# Altium integrated library Linear Technology Power Management uModule Regulators.IntLib: 166 symbols (part 29 of 67)
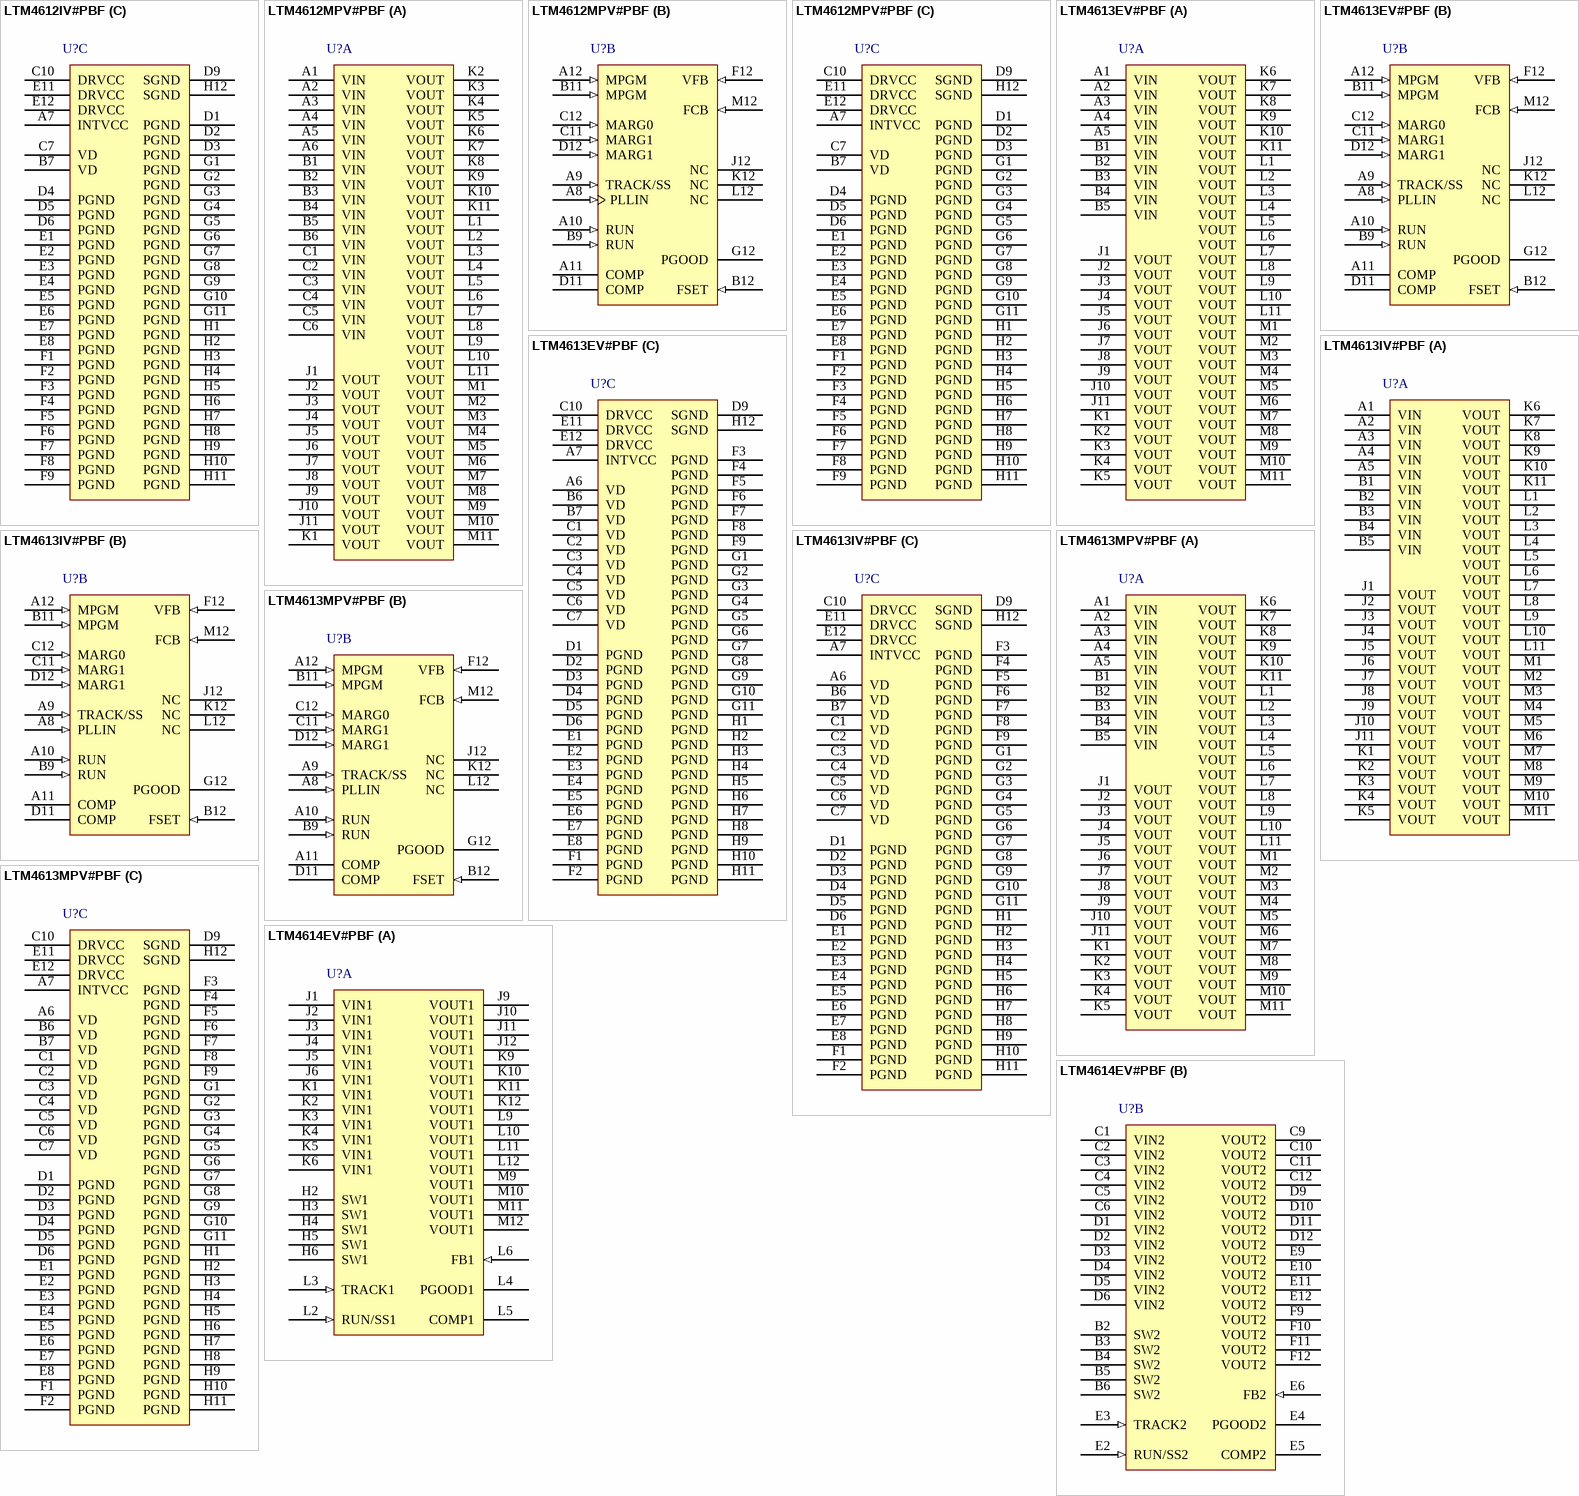
[diagram p55: symbols LTM4612IV#PBF to LTM4614EV#PBF]

## LTM4613IV#PBF
designator U?
36 VIN, 15 VOUT, 8 A, DC/DC uModule Regulator, 133-pin LGA, -40 to 125 degC, Pb-Free, Tray; Manufacturer: Linear Technology; PartNumber: LTM4613IV#PBF; Extended Temp: E, I, MP; Frequency Adjust Range: 200kHz - 700kHz; Frequency(kHz): 600; Ishutdown(uA): 50; Isupply(mA): 78; Number of Outputs: 1; Output Current(A): 8; Switch Current(A): 12; Synchronous: yes; Topology: Buck; Vin Max(V): 36; Vin Min(V): 5; Vout Max(V): 15; Vout Min(V): 3.3; PackageVersion: Rev. A, 02/2013; PackageReference: LGA-133; PackageDescription: 133-Pin LGA, Body 15 x 15 mm, Pitch 1.27 mm; Supplier 1: Digi-Key; Supplier Part Number 1: LTM4613IV#PBF-ND; Supplier 2: Farnell; Supplier Part Number 2: 2115884; Supplier 3: Newark; Supplier Part Number 3: 45T2342; Frequency Sync Range: 200kHz - 700kHz; Packing: Tray; RoHS: TRUE; Tracking: yes; Mounting Technology: Surface Mount; Code_JEDEC: MO-222; ComponentLink1Description: Manufacturer URL; ComponentLink1URL: http://www.linear.com/; ComponentLink2Description: Datasheet; ComponentLink2URL: http://cds.linear.com/docs/en/datasheet/4613f.pdf; ComponentLink3Description: Package Specification; ComponentLink3URL: http://cds.linear.com/docs/en/packaging/05081884_A_lga133.pdf
footprint LT-LGA-133-05-08-1884_V (LGA, 133-Leads, Body 15x15mm, Pitch 1.27mm)
part A pins: A1 VIN (power) "Power Input Pins. Apply input voltage between these pins and PGND pins. Recommend placing input decoupling capacitance directly between VIN pins and PGND pins.", A2 VIN (power) "Power Input Pins. Apply input voltage between these pins and PGND pins. Recommend placing input decoupling capacitance directly between VIN pins and PGND pins.", A3 VIN (power) "Power Input Pins. Apply input voltage between these pins and PGND pins. Recommend placing input decoupling capacitance directly between VIN pins and PGND pins.", A4 VIN (power) "Power Input Pins. Apply input voltage between these pins and PGND pins. Recommend placing input decoupling capacitance directly between VIN pins and PGND pins.", A5 VIN (power) "Power Input Pins. Apply input voltage between these pins and PGND pins. Recommend placing input decoupling capacitance directly between VIN pins and PGND pins.", B1 VIN (power) "Power Input Pins. Apply input voltage between these pins and PGND pins. Recommend placing input decoupling capacitance directly between VIN pins and PGND pins.", B2 VIN (power) "Power Input Pins. Apply input voltage between these pins and PGND pins. Recommend placing input decoupling capacitance directly between VIN pins and PGND pins.", B3 VIN (power) "Power Input Pins. Apply input voltage between these pins and PGND pins. Recommend placing input decoupling capacitance directly between VIN pins and PGND pins.", B4 VIN (power) "Power Input Pins. Apply input voltage between these pins and PGND pins. Recommend placing input decoupling capacitance directly between VIN pins and PGND pins.", B5 VIN (power) "Power Input Pins. Apply input voltage between these pins and PGND pins. Recommend placing input decoupling capacitance directly between VIN pins and PGND pins.", J1 VOUT (power) "Power Output Pins. Apply output load between these pins and PGND pins. Recommend placing output decoupling capacitance directly between these pins and PGND pins (see the LTM4613 Pin Configuration below).", J2 VOUT (power) "Power Output Pins. Apply output load between these pins and PGND pins. Recommend placing output decoupling capacitance directly between these pins and PGND pins (see the LTM4613 Pin Configuration below).", J3 VOUT (power) "Power Output Pins. Apply output load between these pins and PGND pins. Recommend placing output decoupling capacitance directly between these pins and PGND pins (see the LTM4613 Pin Configuration below).", J4 VOUT (power) "Power Output Pins. Apply output load between these pins and PGND pins. Recommend placing output decoupling capacitance directly between these pins and PGND pins (see the LTM4613 Pin Configuration below).", J5 VOUT (power) "Power Output Pins. Apply output load between these pins and PGND pins. Recommend placing output decoupling capacitance directly between these pins and PGND pins (see the LTM4613 Pin Configuration below).", J6 VOUT (power) "Power Output Pins. Apply output load between these pins and PGND pins. Recommend placing output decoupling capacitance directly between these pins and PGND pins (see the LTM4613 Pin Configuration below).", J7 VOUT (power) "Power Output Pins. Apply output load between these pins and PGND pins. Recommend placing output decoupling capacitance directly between these pins and PGND pins (see the LTM4613 Pin Configuration below).", J8 VOUT (power) "Power Output Pins. Apply output load between these pins and PGND pins. Recommend placing output decoupling capacitance directly between these pins and PGND pins (see the LTM4613 Pin Configuration below).", J9 VOUT (power) "Power Output Pins. Apply output load between these pins and PGND pins. Recommend placing output decoupling capacitance directly between these pins and PGND pins (see the LTM4613 Pin Configuration below).", J10 VOUT (power) "Power Output Pins. Apply output load between these pins and PGND pins. Recommend placing output decoupling capacitance directly between these pins and PGND pins (see the LTM4613 Pin Configuration below).", J11 VOUT (power) "Power Output Pins. Apply output load between these pins and PGND pins. Recommend placing output decoupling capacitance directly between these pins and PGND pins (see the LTM4613 Pin Configuration below).", K1 VOUT (power) "Power Output Pins. Apply output load between these pins and PGND pins. Recommend placing output decoupling capacitance directly between these pins and PGND pins (see the LTM4613 Pin Configuration below).", K2 VOUT (power) "Power Output Pins. Apply output load between these pins and PGND pins. Recommend placing output decoupling capacitance directly between these pins and PGND pins (see the LTM4613 Pin Configuration below).", K3 VOUT (power) "Power Output Pins. Apply output load between these pins and PGND pins. Recommend placing output decoupling capacitance directly between these pins and PGND pins (see the LTM4613 Pin Configuration below).", K4 VOUT (power) "Power Output Pins. Apply output load between these pins and PGND pins. Recommend placing output decoupling capacitance directly between these pins and PGND pins (see the LTM4613 Pin Configuration below).", K5 VOUT (power) "Power Output Pins. Apply output load between these pins and PGND pins. Recommend placing output decoupling capacitance directly between these pins and PGND pins (see the LTM4613 Pin Configuration below).", K6 VOUT (power) "Power Output Pins. Apply output load between these pins and PGND pins. Recommend placing output decoupling capacitance directly between these pins and PGND pins (see the LTM4613 Pin Configuration below).", K7 VOUT (power) "Power Output Pins. Apply output load between these pins and PGND pins. Recommend placing output decoupling capacitance directly between these pins and PGND pins (see the LTM4613 Pin Configuration below).", K8 VOUT (power) "Power Output Pins. Apply output load between these pins and PGND pins. Recommend placing output decoupling capacitance directly between these pins and PGND pins (see the LTM4613 Pin Configuration below).", K9 VOUT (power) "Power Output Pins. Apply output load between these pins and PGND pins. Recommend placing output decoupling capacitance directly between these pins and PGND pins (see the LTM4613 Pin Configuration below).", K10 VOUT (power) "Power Output Pins. Apply output load between these pins and PGND pins. Recommend placing output decoupling capacitance directly between these pins and PGND pins (see the LTM4613 Pin Configuration below).", K11 VOUT (power) "Power Output Pins. Apply output load between these pins and PGND pins. Recommend placing output decoupling capacitance directly between these pins and PGND pins (see the LTM4613 Pin Configuration below).", L1 VOUT (power) "Power Output Pins. Apply output load between these pins and PGND pins. Recommend placing output decoupling capacitance directly between these pins and PGND pins (see the LTM4613 Pin Configuration below).", L2 VOUT (power) "Power Output Pins. Apply output load between these pins and PGND pins. Recommend placing output decoupling capacitance directly between these pins and PGND pins (see the LTM4613 Pin Configuration below).", L3 VOUT (power) "Power Output Pins. Apply output load between these pins and PGND pins. Recommend placing output decoupling capacitance directly between these pins and PGND pins (see the LTM4613 Pin Configuration below).", L4 VOUT (power) "Power Output Pins. Apply output load between these pins and PGND pins. Recommend placing output decoupling capacitance directly between these pins and PGND pins (see the LTM4613 Pin Configuration below).", L5 VOUT (power) "Power Output Pins. Apply output load between these pins and PGND pins. Recommend placing output decoupling capacitance directly between these pins and PGND pins (see the LTM4613 Pin Configuration below).", L6 VOUT (power) "Power Output Pins. Apply output load between these pins and PGND pins. Recommend placing output decoupling capacitance directly between these pins and PGND pins (see the LTM4613 Pin Configuration below).", L7 VOUT (power) "Power Output Pins. Apply output load between these pins and PGND pins. Recommend placing output decoupling capacitance directly between these pins and PGND pins (see the LTM4613 Pin Configuration below).", L8 VOUT (power) "Power Output Pins. Apply output load between these pins and PGND pins. Recommend placing output decoupling capacitance directly between these pins and PGND pins (see the LTM4613 Pin Configuration below).", L9 VOUT (power) "Power Output Pins. Apply output load between these pins and PGND pins. Recommend placing output decoupling capacitance directly between these pins and PGND pins (see the LTM4613 Pin Configuration below).", L10 VOUT (power) "Power Output Pins. Apply output load between these pins and PGND pins. Recommend placing output decoupling capacitance directly between these pins and PGND pins (see the LTM4613 Pin Configuration below).", L11 VOUT (power) "Power Output Pins. Apply output load between these pins and PGND pins. Recommend placing output decoupling capacitance directly between these pins and PGND pins (see the LTM4613 Pin Configuration below).", M1 VOUT (power) "Power Output Pins. Apply output load between these pins and PGND pins. Recommend placing output decoupling capacitance directly between these pins and PGND pins (see the LTM4613 Pin Configuration below).", M2 VOUT (power) "Power Output Pins. Apply output load between these pins and PGND pins. Recommend placing output decoupling capacitance directly between these pins and PGND pins (see the LTM4613 Pin Configuration below).", M3 VOUT (power) "Power Output Pins. Apply output load between these pins and PGND pins. Recommend placing output decoupling capacitance directly between these pins and PGND pins (see the LTM4613 Pin Configuration below).", M4 VOUT (power) "Power Output Pins. Apply output load between these pins and PGND pins. Recommend placing output decoupling capacitance directly between these pins and PGND pins (see the LTM4613 Pin Configuration below).", M5 VOUT (power) "Power Output Pins. Apply output load between these pins and PGND pins. Recommend placing output decoupling capacitance directly between these pins and PGND pins (see the LTM4613 Pin Configuration below).", M6 VOUT (power) "Power Output Pins. Apply output load between these pins and PGND pins. Recommend placing output decoupling capacitance directly between these pins and PGND pins (see the LTM4613 Pin Configuration below).", M7 VOUT (power) "Power Output Pins. Apply output load between these pins and PGND pins. Recommend placing output decoupling capacitance directly between these pins and PGND pins (see the LTM4613 Pin Configuration below).", M8 VOUT (power) "Power Output Pins. Apply output load between these pins and PGND pins. Recommend placing output decoupling capacitance directly between these pins and PGND pins (see the LTM4613 Pin Configuration below).", M9 VOUT (power) "Power Output Pins. Apply output load between these pins and PGND pins. Recommend placing output decoupling capacitance directly between these pins and PGND pins (see the LTM4613 Pin Configuration below).", M10 VOUT (power) "Power Output Pins. Apply output load between these pins and PGND pins. Recommend placing output decoupling capacitance directly between these pins and PGND pins (see the LTM4613 Pin Configuration below).", M11 VOUT (power) "Power Output Pins. Apply output load between these pins and PGND pins. Recommend placing output decoupling capacitance directly between these pins and PGND pins (see the LTM4613 Pin Configuration below)."
part B pins: A8 PLLIN (in) "External Clock Synchronization Input to the Phase Detector. This pin is internally terminated to SGND with a 50k resistor. Apply a clock above 2V and below INTVCC subject to minimum on-time and minimum off-time requirements. (See Datasheet)", A9 TRACK/SS (in) "Output Voltage Tracking and Soft-Start Pin. When the module is configured as a master output, then a soft-start capacitor is placed on this pin to ground to control the master ramp rate. A soft start capacitor can be used (See Datasheet)", A10 RUN (in) "Run Control Pins. A voltage above 1.9V will turn on the module, and below 1V will turn off the module. A programmable UVLO function can be accomplished with a resistor from VIN to this pin that has a 5.1V Zener to ground. (See Datasheet)", A11 COMP "Current Control Threshold and Error Amplifier Compensation Point. The current comparator threshold increases with this control voltage. The voltage ranges from 0V to 2.4V with 0.7V corresponding to zero sense voltage (zero (See Datasheet)", A12 MPGM (in) "Programmable Margining Input. A resistor from these pins to ground sets a current that is equal to 1.18V/R. This current multiplied by 10k will equal a value in millivolts that is a percentage of the 0.6V reference voltage. (See Datasheet)", B9 RUN (in) "Run Control Pins. A voltage above 1.9V will turn on the module, and below 1V will turn off the module. A programmable UVLO function can be accomplished with a resistor from VIN to this pin that has a 5.1V Zener to ground. (See Datasheet)", B11 MPGM (in) "Programmable Margining Input. A resistor from these pins to ground sets a current that is equal to 1.18V/R. This current multiplied by 10k will equal a value in millivolts that is a percentage of the 0.6V reference voltage. (See Datasheet)", B12 FSET (in) "Frequency Set Internally to 600kHz at 12V Output. An external resistor can be placed from this pin to ground to increase frequency or from this pin to VIN to reduce frequency. See the Applications Information section for (See Datasheet)", C11 MARG1 (in) "MSB Logic Input for the Margining Function. Together with the MARG0 pin, the MARG1 pin will determine if a margin high, margin low, or no margin state is applied. The pins have an internal pull down resistor of 50k. See the (See Datasheet)", C12 MARG0 (in) "LSB Logic Input for the Margining Function. Together with the MARG1 pin, the MARG0 pin will determine if a margin high, margin low, or no margin state is applied. The pin has an internal pull down resistor of 50k. See the (See Datasheet)", D11 COMP "Current Control Threshold and Error Amplifier Compensation Point. The current comparator threshold increases with this control voltage. The voltage ranges from 0V to 2.4V with 0.7V corresponding to zero sense voltage (zero (See Datasheet)", D12 MARG1 (in) "MSB Logic Input for the Margining Function. Together with the MARG0 pin, the MARG1 pin will determine if a margin high, margin low, or no margin state is applied. The pins have an internal pull down resistor of 50k. See the (See Datasheet)", F12 VFB (in) "The Negative Input of the Error Amplifier. Internally, this pin is connected to VOUT with a 100k 0.5% precision resistor. Different output voltages can be programmed with an additional resistor between the VFB and SGND pins. (See Datasheet)", G12 PGOOD (oc) "Output Voltage Power Good Indicator. Open-drain logic output that is pulled to ground when the output voltage is not within +/-10% of the regulation point, after a 25us power bad mask timer expires.", J12 NC "No Connect Pins. Leave floating. Used for mounting to PCB.", K12 NC "No Connect Pins. Leave floating. Used for mounting to PCB.", L12 NC "No Connect Pins. Leave floating. Used for mounting to PCB.", M12 FCB (in) "Forced Continuous Input. Connect this pin to SGND to force continuous synchronization operation at light load or to INTVCC to enable discontinuous mode operation at light load."
part C pins: A6 VD (power) "Top FET Drain Pins. Add more high frequency ceramic decoupling capacitors between VD and PGND to handle the input RMS current and reduce the input ripple further.", A7 INTVCC (power) "This pin is for additional decoupling of the 5V internal regulator.", B6 VD (power) "Top FET Drain Pins. Add more high frequency ceramic decoupling capacitors between VD and PGND to handle the input RMS current and reduce the input ripple further.", B7 VD (power) "Top FET Drain Pins. Add more high frequency ceramic decoupling capacitors between VD and PGND to handle the input RMS current and reduce the input ripple further.", C1 VD (power) "Top FET Drain Pins. Add more high frequency ceramic decoupling capacitors between VD and PGND to handle the input RMS current and reduce the input ripple further.", C2 VD (power) "Top FET Drain Pins. Add more high frequency ceramic decoupling capacitors between VD and PGND to handle the input RMS current and reduce the input ripple further.", C3 VD (power) "Top FET Drain Pins. Add more high frequency ceramic decoupling capacitors between VD and PGND to handle the input RMS current and reduce the input ripple further.", C4 VD (power) "Top FET Drain Pins. Add more high frequency ceramic decoupling capacitors between VD and PGND to handle the input RMS current and reduce the input ripple further.", C5 VD (power) "Top FET Drain Pins. Add more high frequency ceramic decoupling capacitors between VD and PGND to handle the input RMS current and reduce the input ripple further.", C6 VD (power) "Top FET Drain Pins. Add more high frequency ceramic decoupling capacitors between VD and PGND to handle the input RMS current and reduce the input ripple further.", C7 VD (power) "Top FET Drain Pins. Add more high frequency ceramic decoupling capacitors between VD and PGND to handle the input RMS current and reduce the input ripple further.", C10 DRVCC (power) "These pins normally connect to INTVCC for powering the internal MOSFET drivers. They can be biased up to 6V from an external supply with about 50mA capability. This improves efficiency at the higher input voltages by (See Datasheet)", D1 PGND (power) "Power Ground Pins for Both Input and Output Returns.", D2 PGND (power) "Power Ground Pins for Both Input and Output Returns.", D3 PGND (power) "Power Ground Pins for Both Input and Output Returns.", D4 PGND (power) "Power Ground Pins for Both Input and Output Returns.", D5 PGND (power) "Power Ground Pins for Both Input and Output Returns.", D6 PGND (power) "Power Ground Pins for Both Input and Output Returns.", D9 SGND (power) "Signal Ground Pins. These pins connect to PGND at output capacitor point.", E1 PGND (power) "Power Ground Pins for Both Input and Output Returns.", E2 PGND (power) "Power Ground Pins for Both Input and Output Returns.", E3 PGND (power) "Power Ground Pins for Both Input and Output Returns.", E4 PGND (power) "Power Ground Pins for Both Input and Output Returns.", E5 PGND (power) "Power Ground Pins for Both Input and Output Returns.", E6 PGND (power) "Power Ground Pins for Both Input and Output Returns.", E7 PGND (power) "Power Ground Pins for Both Input and Output Returns.", E8 PGND (power) "Power Ground Pins for Both Input and Output Returns.", E11 DRVCC (power) "These pins normally connect to INTVCC for powering the internal MOSFET drivers. They can be biased up to 6V from an external supply with about 50mA capability. This improves efficiency at the higher input voltages by (See Datasheet)", E12 DRVCC (power) "These pins normally connect to INTVCC for powering the internal MOSFET drivers. They can be biased up to 6V from an external supply with about 50mA capability. This improves efficiency at the higher input voltages by (See Datasheet)", F1 PGND (power) "Power Ground Pins for Both Input and Output Returns.", F2 PGND (power) "Power Ground Pins for Both Input and Output Returns.", F3 PGND (power) "Power Ground Pins for Both Input and Output Returns.", F4 PGND (power) "Power Ground Pins for Both Input and Output Returns.", F5 PGND (power) "Power Ground Pins for Both Input and Output Returns.", F6 PGND (power) "Power Ground Pins for Both Input and Output Returns.", F7 PGND (power) "Power Ground Pins for Both Input and Output Returns.", F8 PGND (power) "Power Ground Pins for Both Input and Output Returns.", F9 PGND (power) "Power Ground Pins for Both Input and Output Returns.", G1 PGND (power) "Power Ground Pins for Both Input and Output Returns.", G2 PGND (power) "Power Ground Pins for Both Input and Output Returns.", G3 PGND (power) "Power Ground Pins for Both Input and Output Returns.", G4 PGND (power) "Power Ground Pins for Both Input and Output Returns.", G5 PGND (power) "Power Ground Pins for Both Input and Output Returns.", G6 PGND (power) "Power Ground Pins for Both Input and Output Returns.", G7 PGND (power) "Power Ground Pins for Both Input and Output Returns.", G8 PGND (power) "Power Ground Pins for Both Input and Output Returns.", G9 PGND (power) "Power Ground Pins for Both Input and Output Returns.", G10 PGND (power) "Power Ground Pins for Both Input and Output Returns.", G11 PGND (power) "Power Ground Pins for Both Input and Output Returns.", H1 PGND (power) "Power Ground Pins for Both Input and Output Returns.", H2 PGND (power) "Power Ground Pins for Both Input and Output Returns.", H3 PGND (power) "Power Ground Pins for Both Input and Output Returns.", H4 PGND (power) "Power Ground Pins for Both Input and Output Returns.", H5 PGND (power) "Power Ground Pins for Both Input and Output Returns.", H6 PGND (power) "Power Ground Pins for Both Input and Output Returns.", H7 PGND (power) "Power Ground Pins for Both Input and Output Returns.", H8 PGND (power) "Power Ground Pins for Both Input and Output Returns.", H9 PGND (power) "Power Ground Pins for Both Input and Output Returns.", H10 PGND (power) "Power Ground Pins for Both Input and Output Returns.", H11 PGND (power) "Power Ground Pins for Both Input and Output Returns.", H12 SGND (power) "Signal Ground Pins. These pins connect to PGND at output capacitor point."

## LTM4613MPV#PBF
designator U?
36 VIN, 15 VOUT, 8 A, DC/DC uModule Regulator, 133-pin LGA, -55 to 125 degC, Pb-Free, Tray; Manufacturer: Linear Technology; PartNumber: LTM4613MPV#PBF; Extended Temp: E, I, MP; Frequency Adjust Range: 200kHz - 700kHz; Frequency(kHz): 600; Ishutdown(uA): 50; Isupply(mA): 78; Number of Outputs: 1; Output Current(A): 8; Switch Current(A): 12; Synchronous: yes; Topology: Buck; Vin Max(V): 36; Vin Min(V): 5; Vout Max(V): 15; Vout Min(V): 3.3; PackageVersion: Rev. A, 02/2013; PackageReference: LGA-133; PackageDescription: 133-Pin LGA, Body 15 x 15 mm, Pitch 1.27 mm; Supplier 1: Digi-Key; Supplier Part Number 1: LTM4613MPV#PBF-ND; Supplier 2: Farnell; Supplier Part Number 2: 2115885; Supplier 3: Newark; Supplier Part Number 3: 45T2343; Frequency Sync Range: 200kHz - 700kHz; Packing: Tray; RoHS: TRUE; Tracking: yes; Mounting Technology: Surface Mount; Code_JEDEC: MO-222; ComponentLink1Description: Manufacturer URL; ComponentLink1URL: http://www.linear.com/; ComponentLink2Description: Datasheet; ComponentLink2URL: http://cds.linear.com/docs/en/datasheet/4613f.pdf; ComponentLink3Description: Package Specification; ComponentLink3URL: http://cds.linear.com/docs/en/packaging/05081884_A_lga133.pdf
footprint LT-LGA-133-05-08-1884_V (LGA, 133-Leads, Body 15x15mm, Pitch 1.27mm)
part A pins: A1 VIN (power) "Power Input Pins. Apply input voltage between these pins and PGND pins. Recommend placing input decoupling capacitance directly between VIN pins and PGND pins.", A2 VIN (power) "Power Input Pins. Apply input voltage between these pins and PGND pins. Recommend placing input decoupling capacitance directly between VIN pins and PGND pins.", A3 VIN (power) "Power Input Pins. Apply input voltage between these pins and PGND pins. Recommend placing input decoupling capacitance directly between VIN pins and PGND pins.", A4 VIN (power) "Power Input Pins. Apply input voltage between these pins and PGND pins. Recommend placing input decoupling capacitance directly between VIN pins and PGND pins.", A5 VIN (power) "Power Input Pins. Apply input voltage between these pins and PGND pins. Recommend placing input decoupling capacitance directly between VIN pins and PGND pins.", B1 VIN (power) "Power Input Pins. Apply input voltage between these pins and PGND pins. Recommend placing input decoupling capacitance directly between VIN pins and PGND pins.", B2 VIN (power) "Power Input Pins. Apply input voltage between these pins and PGND pins. Recommend placing input decoupling capacitance directly between VIN pins and PGND pins.", B3 VIN (power) "Power Input Pins. Apply input voltage between these pins and PGND pins. Recommend placing input decoupling capacitance directly between VIN pins and PGND pins.", B4 VIN (power) "Power Input Pins. Apply input voltage between these pins and PGND pins. Recommend placing input decoupling capacitance directly between VIN pins and PGND pins.", B5 VIN (power) "Power Input Pins. Apply input voltage between these pins and PGND pins. Recommend placing input decoupling capacitance directly between VIN pins and PGND pins.", J1 VOUT (power) "Power Output Pins. Apply output load between these pins and PGND pins. Recommend placing output decoupling capacitance directly between these pins and PGND pins (see the LTM4613 Pin Configuration below).", J2 VOUT (power) "Power Output Pins. Apply output load between these pins and PGND pins. Recommend placing output decoupling capacitance directly between these pins and PGND pins (see the LTM4613 Pin Configuration below).", J3 VOUT (power) "Power Output Pins. Apply output load between these pins and PGND pins. Recommend placing output decoupling capacitance directly between these pins and PGND pins (see the LTM4613 Pin Configuration below).", J4 VOUT (power) "Power Output Pins. Apply output load between these pins and PGND pins. Recommend placing output decoupling capacitance directly between these pins and PGND pins (see the LTM4613 Pin Configuration below).", J5 VOUT (power) "Power Output Pins. Apply output load between these pins and PGND pins. Recommend placing output decoupling capacitance directly between these pins and PGND pins (see the LTM4613 Pin Configuration below).", J6 VOUT (power) "Power Output Pins. Apply output load between these pins and PGND pins. Recommend placing output decoupling capacitance directly between these pins and PGND pins (see the LTM4613 Pin Configuration below).", J7 VOUT (power) "Power Output Pins. Apply output load between these pins and PGND pins. Recommend placing output decoupling capacitance directly between these pins and PGND pins (see the LTM4613 Pin Configuration below).", J8 VOUT (power) "Power Output Pins. Apply output load between these pins and PGND pins. Recommend placing output decoupling capacitance directly between these pins and PGND pins (see the LTM4613 Pin Configuration below).", J9 VOUT (power) "Power Output Pins. Apply output load between these pins and PGND pins. Recommend placing output decoupling capacitance directly between these pins and PGND pins (see the LTM4613 Pin Configuration below).", J10 VOUT (power) "Power Output Pins. Apply output load between these pins and PGND pins. Recommend placing output decoupling capacitance directly between these pins and PGND pins (see the LTM4613 Pin Configuration below).", J11 VOUT (power) "Power Output Pins. Apply output load between these pins and PGND pins. Recommend placing output decoupling capacitance directly between these pins and PGND pins (see the LTM4613 Pin Configuration below).", K1 VOUT (power) "Power Output Pins. Apply output load between these pins and PGND pins. Recommend placing output decoupling capacitance directly between these pins and PGND pins (see the LTM4613 Pin Configuration below).", K2 VOUT (power) "Power Output Pins. Apply output load between these pins and PGND pins. Recommend placing output decoupling capacitance directly between these pins and PGND pins (see the LTM4613 Pin Configuration below).", K3 VOUT (power) "Power Output Pins. Apply output load between these pins and PGND pins. Recommend placing output decoupling capacitance directly between these pins and PGND pins (see the LTM4613 Pin Configuration below).", K4 VOUT (power) "Power Output Pins. Apply output load between these pins and PGND pins. Recommend placing output decoupling capacitance directly between these pins and PGND pins (see the LTM4613 Pin Configuration below).", K5 VOUT (power) "Power Output Pins. Apply output load between these pins and PGND pins. Recommend placing output decoupling capacitance directly between these pins and PGND pins (see the LTM4613 Pin Configuration below).", K6 VOUT (power) "Power Output Pins. Apply output load between these pins and PGND pins. Recommend placing output decoupling capacitance directly between these pins and PGND pins (see the LTM4613 Pin Configuration below).", K7 VOUT (power) "Power Output Pins. Apply output load between these pins and PGND pins. Recommend placing output decoupling capacitance directly between these pins and PGND pins (see the LTM4613 Pin Configuration below).", K8 VOUT (power) "Power Output Pins. Apply output load between these pins and PGND pins. Recommend placing output decoupling capacitance directly between these pins and PGND pins (see the LTM4613 Pin Configuration below).", K9 VOUT (power) "Power Output Pins. Apply output load between these pins and PGND pins. Recommend placing output decoupling capacitance directly between these pins and PGND pins (see the LTM4613 Pin Configuration below).", K10 VOUT (power) "Power Output Pins. Apply output load between these pins and PGND pins. Recommend placing output decoupling capacitance directly between these pins and PGND pins (see the LTM4613 Pin Configuration below).", K11 VOUT (power) "Power Output Pins. Apply output load between these pins and PGND pins. Recommend placing output decoupling capacitance directly between these pins and PGND pins (see the LTM4613 Pin Configuration below).", L1 VOUT (power) "Power Output Pins. Apply output load between these pins and PGND pins. Recommend placing output decoupling capacitance directly between these pins and PGND pins (see the LTM4613 Pin Configuration below).", L2 VOUT (power) "Power Output Pins. Apply output load between these pins and PGND pins. Recommend placing output decoupling capacitance directly between these pins and PGND pins (see the LTM4613 Pin Configuration below).", L3 VOUT (power) "Power Output Pins. Apply output load between these pins and PGND pins. Recommend placing output decoupling capacitance directly between these pins and PGND pins (see the LTM4613 Pin Configuration below).", L4 VOUT (power) "Power Output Pins. Apply output load between these pins and PGND pins. Recommend placing output decoupling capacitance directly between these pins and PGND pins (see the LTM4613 Pin Configuration below).", L5 VOUT (power) "Power Output Pins. Apply output load between these pins and PGND pins. Recommend placing output decoupling capacitance directly between these pins and PGND pins (see the LTM4613 Pin Configuration below).", L6 VOUT (power) "Power Output Pins. Apply output load between these pins and PGND pins. Recommend placing output decoupling capacitance directly between these pins and PGND pins (see the LTM4613 Pin Configuration below).", L7 VOUT (power) "Power Output Pins. Apply output load between these pins and PGND pins. Recommend placing output decoupling capacitance directly between these pins and PGND pins (see the LTM4613 Pin Configuration below).", L8 VOUT (power) "Power Output Pins. Apply output load between these pins and PGND pins. Recommend placing output decoupling capacitance directly between these pins and PGND pins (see the LTM4613 Pin Configuration below).", L9 VOUT (power) "Power Output Pins. Apply output load between these pins and PGND pins. Recommend placing output decoupling capacitance directly between these pins and PGND pins (see the LTM4613 Pin Configuration below).", L10 VOUT (power) "Power Output Pins. Apply output load between these pins and PGND pins. Recommend placing output decoupling capacitance directly between these pins and PGND pins (see the LTM4613 Pin Configuration below).", L11 VOUT (power) "Power Output Pins. Apply output load between these pins and PGND pins. Recommend placing output decoupling capacitance directly between these pins and PGND pins (see the LTM4613 Pin Configuration below).", M1 VOUT (power) "Power Output Pins. Apply output load between these pins and PGND pins. Recommend placing output decoupling capacitance directly between these pins and PGND pins (see the LTM4613 Pin Configuration below).", M2 VOUT (power) "Power Output Pins. Apply output load between these pins and PGND pins. Recommend placing output decoupling capacitance directly between these pins and PGND pins (see the LTM4613 Pin Configuration below).", M3 VOUT (power) "Power Output Pins. Apply output load between these pins and PGND pins. Recommend placing output decoupling capacitance directly between these pins and PGND pins (see the LTM4613 Pin Configuration below).", M4 VOUT (power) "Power Output Pins. Apply output load between these pins and PGND pins. Recommend placing output decoupling capacitance directly between these pins and PGND pins (see the LTM4613 Pin Configuration below).", M5 VOUT (power) "Power Output Pins. Apply output load between these pins and PGND pins. Recommend placing output decoupling capacitance directly between these pins and PGND pins (see the LTM4613 Pin Configuration below).", M6 VOUT (power) "Power Output Pins. Apply output load between these pins and PGND pins. Recommend placing output decoupling capacitance directly between these pins and PGND pins (see the LTM4613 Pin Configuration below).", M7 VOUT (power) "Power Output Pins. Apply output load between these pins and PGND pins. Recommend placing output decoupling capacitance directly between these pins and PGND pins (see the LTM4613 Pin Configuration below).", M8 VOUT (power) "Power Output Pins. Apply output load between these pins and PGND pins. Recommend placing output decoupling capacitance directly between these pins and PGND pins (see the LTM4613 Pin Configuration below).", M9 VOUT (power) "Power Output Pins. Apply output load between these pins and PGND pins. Recommend placing output decoupling capacitance directly between these pins and PGND pins (see the LTM4613 Pin Configuration below).", M10 VOUT (power) "Power Output Pins. Apply output load between these pins and PGND pins. Recommend placing output decoupling capacitance directly between these pins and PGND pins (see the LTM4613 Pin Configuration below).", M11 VOUT (power) "Power Output Pins. Apply output load between these pins and PGND pins. Recommend placing output decoupling capacitance directly between these pins and PGND pins (see the LTM4613 Pin Configuration below)."
part B pins: A8 PLLIN (in) "External Clock Synchronization Input to the Phase Detector. This pin is internally terminated to SGND with a 50k resistor. Apply a clock above 2V and below INTVCC subject to minimum on-time and minimum off-time requirements. (See Datasheet)", A9 TRACK/SS (in) "Output Voltage Tracking and Soft-Start Pin. When the module is configured as a master output, then a soft-start capacitor is placed on this pin to ground to control the master ramp rate. A soft start capacitor can be used (See Datasheet)", A10 RUN (in) "Run Control Pins. A voltage above 1.9V will turn on the module, and below 1V will turn off the module. A programmable UVLO function can be accomplished with a resistor from VIN to this pin that has a 5.1V Zener to ground. (See Datasheet)", A11 COMP "Current Control Threshold and Error Amplifier Compensation Point. The current comparator threshold increases with this control voltage. The voltage ranges from 0V to 2.4V with 0.7V corresponding to zero sense voltage (zero (See Datasheet)", A12 MPGM (in) "Programmable Margining Input. A resistor from these pins to ground sets a current that is equal to 1.18V/R. This current multiplied by 10k will equal a value in millivolts that is a percentage of the 0.6V reference voltage. (See Datasheet)", B9 RUN (in) "Run Control Pins. A voltage above 1.9V will turn on the module, and below 1V will turn off the module. A programmable UVLO function can be accomplished with a resistor from VIN to this pin that has a 5.1V Zener to ground. (See Datasheet)", B11 MPGM (in) "Programmable Margining Input. A resistor from these pins to ground sets a current that is equal to 1.18V/R. This current multiplied by 10k will equal a value in millivolts that is a percentage of the 0.6V reference voltage. (See Datasheet)", B12 FSET (in) "Frequency Set Internally to 600kHz at 12V Output. An external resistor can be placed from this pin to ground to increase frequency or from this pin to VIN to reduce frequency. See the Applications Information section for (See Datasheet)", C11 MARG1 (in) "MSB Logic Input for the Margining Function. Together with the MARG0 pin, the MARG1 pin will determine if a margin high, margin low, or no margin state is applied. The pins have an internal pull down resistor of 50k. See the (See Datasheet)", C12 MARG0 (in) "LSB Logic Input for the Margining Function. Together with the MARG1 pin, the MARG0 pin will determine if a margin high, margin low, or no margin state is applied. The pin has an internal pull down resistor of 50k. See the (See Datasheet)", D11 COMP "Current Control Threshold and Error Amplifier Compensation Point. The current comparator threshold increases with this control voltage. The voltage ranges from 0V to 2.4V with 0.7V corresponding to zero sense voltage (zero (See Datasheet)", D12 MARG1 (in) "MSB Logic Input for the Margining Function. Together with the MARG0 pin, the MARG1 pin will determine if a margin high, margin low, or no margin state is applied. The pins have an internal pull down resistor of 50k. See the (See Datasheet)", F12 VFB (in) "The Negative Input of the Error Amplifier. Internally, this pin is connected to VOUT with a 100k 0.5% precision resistor. Different output voltages can be programmed with an additional resistor between the VFB and SGND pins. (See Datasheet)", G12 PGOOD (oc) "Output Voltage Power Good Indicator. Open-drain logic output that is pulled to ground when the output voltage is not within +/-10% of the regulation point, after a 25us power bad mask timer expires.", J12 NC "No Connect Pins. Leave floating. Used for mounting to PCB.", K12 NC "No Connect Pins. Leave floating. Used for mounting to PCB.", L12 NC "No Connect Pins. Leave floating. Used for mounting to PCB.", M12 FCB (in) "Forced Continuous Input. Connect this pin to SGND to force continuous synchronization operation at light load or to INTVCC to enable discontinuous mode operation at light load."
part C pins: A6 VD (power) "Top FET Drain Pins. Add more high frequency ceramic decoupling capacitors between VD and PGND to handle the input RMS current and reduce the input ripple further.", A7 INTVCC (power) "This pin is for additional decoupling of the 5V internal regulator.", B6 VD (power) "Top FET Drain Pins. Add more high frequency ceramic decoupling capacitors between VD and PGND to handle the input RMS current and reduce the input ripple further.", B7 VD (power) "Top FET Drain Pins. Add more high frequency ceramic decoupling capacitors between VD and PGND to handle the input RMS current and reduce the input ripple further.", C1 VD (power) "Top FET Drain Pins. Add more high frequency ceramic decoupling capacitors between VD and PGND to handle the input RMS current and reduce the input ripple further.", C2 VD (power) "Top FET Drain Pins. Add more high frequency ceramic decoupling capacitors between VD and PGND to handle the input RMS current and reduce the input ripple further.", C3 VD (power) "Top FET Drain Pins. Add more high frequency ceramic decoupling capacitors between VD and PGND to handle the input RMS current and reduce the input ripple further.", C4 VD (power) "Top FET Drain Pins. Add more high frequency ceramic decoupling capacitors between VD and PGND to handle the input RMS current and reduce the input ripple further.", C5 VD (power) "Top FET Drain Pins. Add more high frequency ceramic decoupling capacitors between VD and PGND to handle the input RMS current and reduce the input ripple further.", C6 VD (power) "Top FET Drain Pins. Add more high frequency ceramic decoupling capacitors between VD and PGND to handle the input RMS current and reduce the input ripple further.", C7 VD (power) "Top FET Drain Pins. Add more high frequency ceramic decoupling capacitors between VD and PGND to handle the input RMS current and reduce the input ripple further.", C10 DRVCC (power) "These pins normally connect to INTVCC for powering the internal MOSFET drivers. They can be biased up to 6V from an external supply with about 50mA capability. This improves efficiency at the higher input voltages by (See Datasheet)", D1 PGND (power) "Power Ground Pins for Both Input and Output Returns.", D2 PGND (power) "Power Ground Pins for Both Input and Output Returns.", D3 PGND (power) "Power Ground Pins for Both Input and Output Returns.", D4 PGND (power) "Power Ground Pins for Both Input and Output Returns.", D5 PGND (power) "Power Ground Pins for Both Input and Output Returns.", D6 PGND (power) "Power Ground Pins for Both Input and Output Returns.", D9 SGND (power) "Signal Ground Pins. These pins connect to PGND at output capacitor point.", E1 PGND (power) "Power Ground Pins for Both Input and Output Returns.", E2 PGND (power) "Power Ground Pins for Both Input and Output Returns.", E3 PGND (power) "Power Ground Pins for Both Input and Output Returns.", E4 PGND (power) "Power Ground Pins for Both Input and Output Returns.", E5 PGND (power) "Power Ground Pins for Both Input and Output Returns.", E6 PGND (power) "Power Ground Pins for Both Input and Output Returns.", E7 PGND (power) "Power Ground Pins for Both Input and Output Returns.", E8 PGND (power) "Power Ground Pins for Both Input and Output Returns.", E11 DRVCC (power) "These pins normally connect to INTVCC for powering the internal MOSFET drivers. They can be biased up to 6V from an external supply with about 50mA capability. This improves efficiency at the higher input voltages by (See Datasheet)", E12 DRVCC (power) "These pins normally connect to INTVCC for powering the internal MOSFET drivers. They can be biased up to 6V from an external supply with about 50mA capability. This improves efficiency at the higher input voltages by (See Datasheet)", F1 PGND (power) "Power Ground Pins for Both Input and Output Returns.", F2 PGND (power) "Power Ground Pins for Both Input and Output Returns.", F3 PGND (power) "Power Ground Pins for Both Input and Output Returns.", F4 PGND (power) "Power Ground Pins for Both Input and Output Returns.", F5 PGND (power) "Power Ground Pins for Both Input and Output Returns.", F6 PGND (power) "Power Ground Pins for Both Input and Output Returns.", F7 PGND (power) "Power Ground Pins for Both Input and Output Returns.", F8 PGND (power) "Power Ground Pins for Both Input and Output Returns.", F9 PGND (power) "Power Ground Pins for Both Input and Output Returns.", G1 PGND (power) "Power Ground Pins for Both Input and Output Returns.", G2 PGND (power) "Power Ground Pins for Both Input and Output Returns.", G3 PGND (power) "Power Ground Pins for Both Input and Output Returns.", G4 PGND (power) "Power Ground Pins for Both Input and Output Returns.", G5 PGND (power) "Power Ground Pins for Both Input and Output Returns.", G6 PGND (power) "Power Ground Pins for Both Input and Output Returns.", G7 PGND (power) "Power Ground Pins for Both Input and Output Returns.", G8 PGND (power) "Power Ground Pins for Both Input and Output Returns.", G9 PGND (power) "Power Ground Pins for Both Input and Output Returns.", G10 PGND (power) "Power Ground Pins for Both Input and Output Returns.", G11 PGND (power) "Power Ground Pins for Both Input and Output Returns.", H1 PGND (power) "Power Ground Pins for Both Input and Output Returns.", H2 PGND (power) "Power Ground Pins for Both Input and Output Returns.", H3 PGND (power) "Power Ground Pins for Both Input and Output Returns.", H4 PGND (power) "Power Ground Pins for Both Input and Output Returns.", H5 PGND (power) "Power Ground Pins for Both Input and Output Returns.", H6 PGND (power) "Power Ground Pins for Both Input and Output Returns.", H7 PGND (power) "Power Ground Pins for Both Input and Output Returns.", H8 PGND (power) "Power Ground Pins for Both Input and Output Returns.", H9 PGND (power) "Power Ground Pins for Both Input and Output Returns.", H10 PGND (power) "Power Ground Pins for Both Input and Output Returns.", H11 PGND (power) "Power Ground Pins for Both Input and Output Returns.", H12 SGND (power) "Signal Ground Pins. These pins connect to PGND at output capacitor point."

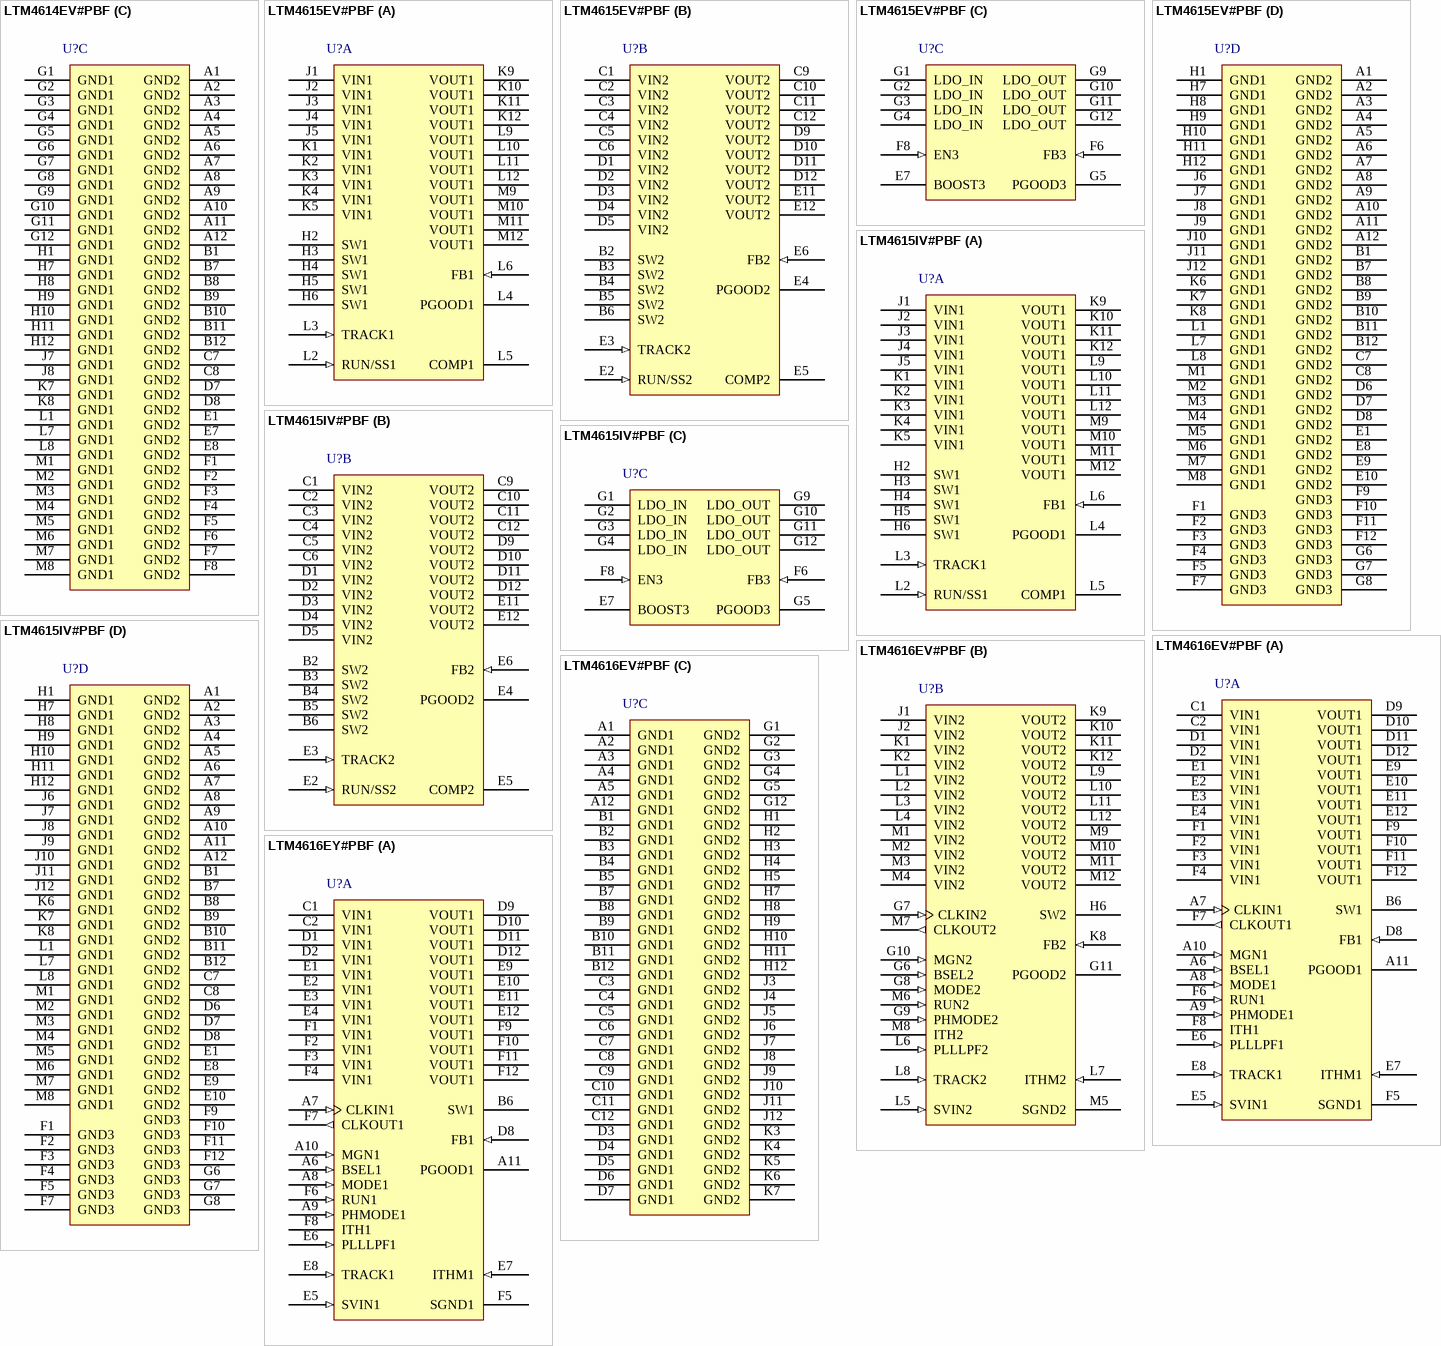
[diagram p13: symbols LTM4614EV#PBF to LTM4616EY#PBF]